# Altium footprint library FT-M6678DSK_28nm_0920.PcbLib: 78 footprints (part 6 of 6)
Each footprint in its own frame and in the unit in brackets; x right, y up, seen from the top. Pads: shape width x height; smd on the part's side, far side on the other; paste and mask are expansions set on the pad; w line width, h text height; cw(c..) or ccw(c..) is an arc to the next point about the centre after c.
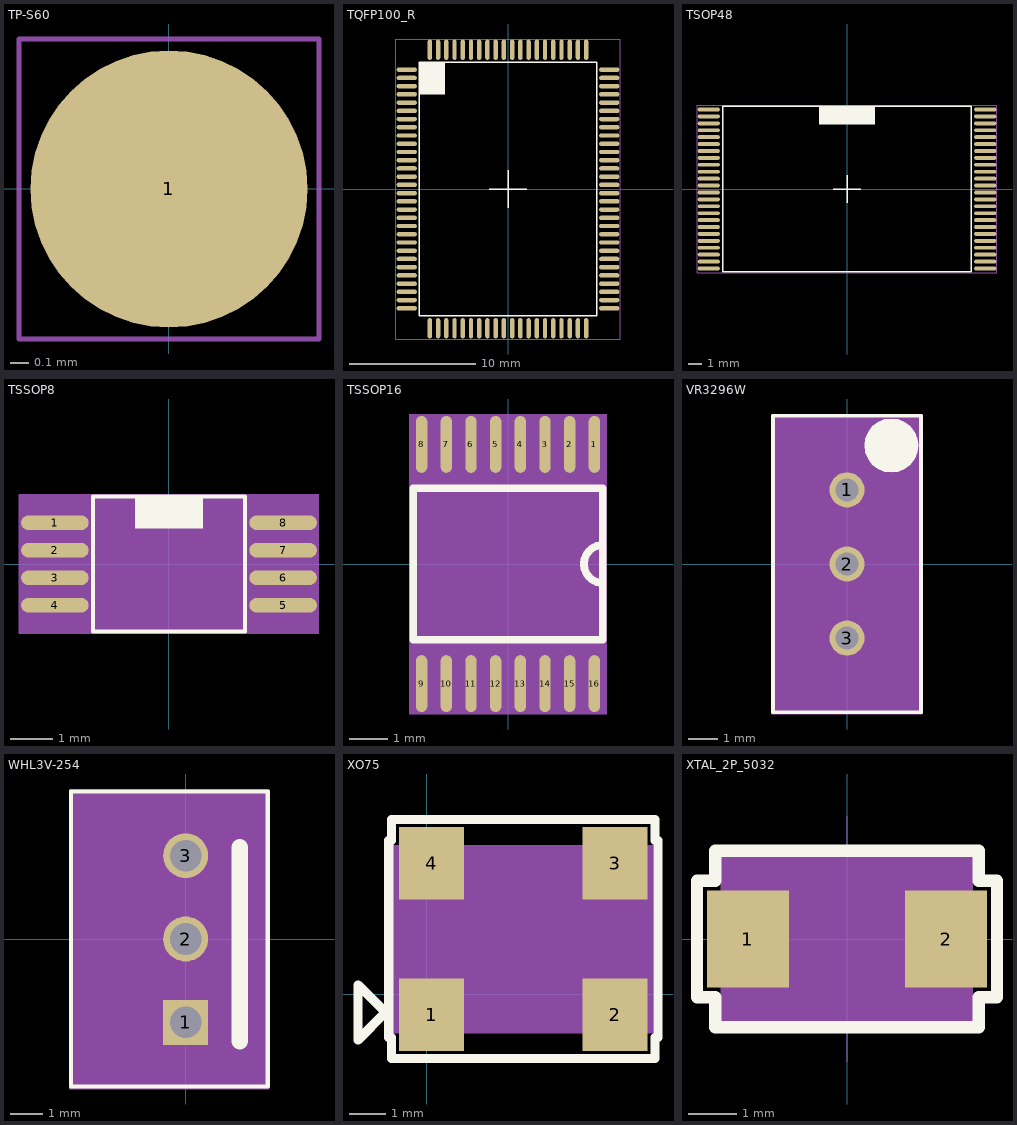
[diagram p5: the footprints below, top view; thin cyan lines are the x and y axes]

## TP-S60 [mil] "TP-S60"
pads (1):
  round 60 smd: 1(0,0)
Mechanical 11:
  text "1" at -11.2,0 h28
Mechanical 15:
  lines w1: -32.5,-32.5 -32.5,32.5 32.5,32.5 32.5,-32.5 -32.5,-32.5

## TQFP100_R [mm] "TQFP100_R"
pads (100):
  oval 1.6x0.35 smd: 1(-8,9.425) 2(-8,8.775) 3(-8,8.125) 4(-8,7.475) 5(-8,6.825) 6(-8,6.175) 7(-8,5.525) 8(-8,4.875) 9(-8,4.225) 10(-8,3.575) 11(-8,2.925) 12(-8,2.275) 13(-8,1.625) 14(-8,0.975) 15(-8,0.325) 16(-8,-0.325) 17(-8,-0.975) 18(-8,-1.625) 19(-8,-2.275) 20(-8,-2.925) 21(-8,-3.575) 22(-8,-4.225) 23(-8,-4.875) 24(-8,-5.525) 25(-8,-6.175) 26(-8,-6.825) 27(-8,-7.475) 28(-8,-8.125) 29(-8,-8.775) 30(-8,-9.425) 51(8,-9.425) 52(8,-8.775) 53(8,-8.125) 54(8,-7.475) 55(8,-6.825) 56(8,-6.175) 57(8,-5.525) 58(8,-4.875) 59(8,-4.225) 60(8,-3.575) 61(8,-2.925) 62(8,-2.275) 63(8,-1.625) 64(8,-0.975) 65(8,-0.325) 66(8,0.325) 67(8,0.975) 68(8,1.625) 69(8,2.275) 70(8,2.925) 71(8,3.575) 72(8,4.225) 73(8,4.875) 74(8,5.525) 75(8,6.175) 76(8,6.825) 77(8,7.475) 78(8,8.125) 79(8,8.775) 80(8,9.425)
  oval 0.35x1.6 smd: 31(-6.175,-11) 32(-5.525,-11) 33(-4.875,-11) 34(-4.225,-11) 35(-3.575,-11) 36(-2.925,-11) 37(-2.275,-11) 38(-1.625,-11) 39(-0.975,-11) 40(-0.325,-11) 41(0.325,-11) 42(0.975,-11) 43(1.625,-11) 44(2.275,-11) 45(2.925,-11) 46(3.575,-11) 47(4.225,-11) 48(4.875,-11) 49(5.525,-11) 50(6.175,-11) 81(6.175,11) 82(5.525,11) 83(4.875,11) 84(4.225,11) 85(3.575,11) 86(2.925,11) 87(2.275,11) 88(1.625,11) 89(0.975,11) 90(0.325,11) 91(-0.325,11) 92(-0.975,11) 93(-1.625,11) 94(-2.275,11) 95(-2.925,11) 96(-3.575,11) 97(-4.225,11) 98(-4.875,11) 99(-5.525,11) 100(-6.175,11)
Top Overlay:
  pour cut-out: -7,10 -7,7.5 -5,7.5 -5,10
  lines w0.1: -1.5,0 1.5,0 ; 0,-1.5 0,1.5 ; -7,-10 7,-10 7,10 -7,10 -7,-10
Mechanical 11:
  text "100" at -6.535,11 h0.3
  text "98" at -5.115,11 h0.3
  text "68" at 7.76,1.625 h0.3
  text "94" at -2.515,11 h0.3
  text "69" at 7.76,2.275 h0.3
  text "72" at 7.76,4.225 h0.3
  text "73" at 7.76,4.875 h0.3
  text "74" at 7.76,5.525 h0.3
  text "85" at 3.335,11 h0.3
  text "37" at -2.515,-11 h0.3
  text "75" at 7.76,6.175 h0.3
  text "86" at 2.685,11 h0.3
  text "87" at 2.035,11 h0.3
  text "7" at -8.12,5.525 h0.3
  text "13" at -8.24,1.625 h0.3
  text "28" at -8.24,-8.125 h0.3
  text "18" at -8.24,-1.625 h0.3
  text "22" at -8.24,-4.225 h0.3
  text "29" at -8.24,-8.775 h0.3
  text "9" at -8.12,4.225 h0.3
  text "8" at -8.12,4.875 h0.3
  text "3" at -8.12,8.125 h0.3
  text "25" at -8.24,-6.175 h0.3
  text "2" at -8.12,8.775 h0.3
  text "24" at -8.24,-5.525 h0.3
  text "23" at -8.24,-4.875 h0.3
  text "19" at -8.24,-2.275 h0.3
  text "12" at -8.24,2.275 h0.3
  text "6" at -8.12,6.175 h0.3
  text "30" at -8.24,-9.425 h0.3
  text "1" at -8.12,9.425 h0.3
  text "80" at 7.76,9.425 h0.3
  text "51" at 7.76,-9.425 h0.3
  text "31" at -6.415,-11 h0.3
  text "40" at -0.565,-11 h0.3
  text "55" at 7.76,-6.825 h0.3
  text "21" at -8.24,-3.575 h0.3
  text "26" at -8.24,-6.825 h0.3
  text "60" at 7.76,-3.575 h0.3
  text "17" at -8.24,-0.975 h0.3
  text "67" at 7.76,0.975 h0.3
  text "64" at 7.76,-0.975 h0.3
  text "5" at -8.12,6.825 h0.3
  text "10" at -8.24,3.575 h0.3
  text "76" at 7.76,6.825 h0.3
  text "71" at 7.76,3.575 h0.3
  text "92" at -1.215,11 h0.3
  text "90" at 0.085,11 h0.3
  text "96" at -3.815,11 h0.3
  text "95" at -3.165,11 h0.3
  text "89" at 0.735,11 h0.3
  text "27" at -8.24,-7.475 h0.3
  text "41" at 0.085,-11 h0.3
  text "54" at 7.76,-7.475 h0.3
  text "20" at -8.24,-2.925 h0.3
  text "61" at 7.76,-2.925 h0.3
  text "11" at -8.24,2.925 h0.3
  text "15" at -8.24,0.325 h0.3
  text "65" at 7.76,-0.325 h0.3
  text "70" at 7.76,2.925 h0.3
  text "4" at -8.12,7.475 h0.3
  text "77" at 7.76,7.475 h0.3
  text "97" at -4.465,11 h0.3
  text "91" at -0.565,11 h0.3
  text "88" at 1.385,11 h0.3
  text "84" at 3.985,11 h0.3
  text "57" at 7.76,-5.525 h0.3
  text "49" at 5.285,-11 h0.3
  text "58" at 7.76,-4.875 h0.3
  text "50" at 5.935,-11 h0.3
  text "59" at 7.76,-4.225 h0.3
  text "43" at 1.385,-11 h0.3
  text "42" at 0.735,-11 h0.3
  text "83" at 4.635,11 h0.3
  text "62" at 7.76,-2.275 h0.3
  text "39" at -1.215,-11 h0.3
  text "63" at 7.76,-1.625 h0.3
  text "93" at -1.865,11 h0.3
  text "99" at -5.765,11 h0.3
  text "82" at 5.285,11 h0.3
  text "52" at 7.76,-8.775 h0.3
  text "81" at 5.935,11 h0.3
  text "44" at 2.035,-11 h0.3
  text "45" at 2.685,-11 h0.3
  text "46" at 3.335,-11 h0.3
  text "47" at 3.985,-11 h0.3
  text "53" at 7.76,-8.125 h0.3
  text "48" at 4.635,-11 h0.3
  text "56" at 7.76,-6.175 h0.3
  text "78" at 7.76,8.125 h0.3
  text "36" at -3.165,-11 h0.3
  text "35" at -3.815,-11 h0.3
  text "79" at 7.76,8.775 h0.3
  text "34" at -4.465,-11 h0.3
  text "33" at -5.115,-11 h0.3
  text "32" at -5.765,-11 h0.3
  text "66" at 7.76,0.325 h0.3
  text "38" at -1.865,-11 h0.3
  text "16" at -8.24,-0.325 h0.3
  text "14" at -8.24,0.975 h0.3
Mechanical 15:
  lines w0.025: -8.85,-11.85 8.85,-11.85 8.85,11.85 -8.85,11.85 -8.85,-11.85

## TSOP48 [mm] "TSOP48"
pads (48):
  oval 1.6x0.28 smd: 1(-10,5.75) 2(-10,5.25) 3(-10,4.75) 4(-10,4.25) 5(-10,3.75) 6(-10,3.25) 7(-10,2.75) 8(-10,2.25) 9(-10,1.75) 10(-10,1.25) 11(-10,0.75) 12(-10,0.25) 13(-10,-0.25) 14(-10,-0.75) 15(-10,-1.25) 16(-10,-1.75) 17(-10,-2.25) 18(-10,-2.75) 19(-10,-3.25) 20(-10,-3.75) 21(-10,-4.25) 22(-10,-4.75) 23(-10,-5.25) 24(-10,-5.75) 25(10,-5.75) 26(10,-5.25) 27(10,-4.75) 28(10,-4.25) 29(10,-3.75) 30(10,-3.25) 31(10,-2.75) 32(10,-2.25) 33(10,-1.75) 34(10,-1.25) 35(10,-0.75) 36(10,-0.25) 37(10,0.25) 38(10,0.75) 39(10,1.25) 40(10,1.75) 41(10,2.25) 42(10,2.75) 43(10,3.25) 44(10,3.75) 45(10,4.25) 46(10,4.75) 47(10,5.25) 48(10,5.75)
Top Overlay:
  pour cut-out: -2,6 -2,4.7 2,4.7 2,6
  lines w0.1: -1,0 1,0 ; 0,-1 0,1 ; -9,-6 -9,6 9,6 9,-6 -9,-6
Mechanical 11:
  text "6" at -10.12,3.25 h0.3
  text "19" at -10.24,-3.25 h0.3
  text "31" at 9.76,-2.75 h0.3
  text "7" at -10.12,2.75 h0.3
  text "47" at 9.76,5.25 h0.3
  text "48" at 9.76,5.75 h0.3
  text "1" at -10.12,5.75 h0.3
  text "2" at -10.12,5.25 h0.3
  text "3" at -10.12,4.75 h0.3
  text "24" at -10.24,-5.75 h0.3
  text "25" at 9.76,-5.75 h0.3
  text "26" at 9.76,-5.25 h0.3
  text "27" at 9.76,-4.75 h0.3
  text "28" at 9.76,-4.25 h0.3
  text "29" at 9.76,-3.75 h0.3
  text "30" at 9.76,-3.25 h0.3
  text "45" at 9.76,4.25 h0.3
  text "5" at -10.12,3.75 h0.3
  text "20" at -10.24,-3.75 h0.3
  text "21" at -10.24,-4.25 h0.3
  text "22" at -10.24,-4.75 h0.3
  text "23" at -10.24,-5.25 h0.3
  text "36" at 9.76,-0.25 h0.3
  text "12" at -10.24,0.25 h0.3
  text "42" at 9.76,2.75 h0.3
  text "43" at 9.76,3.25 h0.3
  text "13" at -10.24,-0.25 h0.3
  text "37" at 9.76,0.25 h0.3
  text "10" at -10.24,1.25 h0.3
  text "16" at -10.24,-1.75 h0.3
  text "33" at 9.76,-1.75 h0.3
  text "35" at 9.76,-0.75 h0.3
  text "38" at 9.76,0.75 h0.3
  text "8" at -10.12,2.25 h0.3
  text "39" at 9.76,1.25 h0.3
  text "9" at -10.12,1.75 h0.3
  text "14" at -10.24,-0.75 h0.3
  text "15" at -10.24,-1.25 h0.3
  text "41" at 9.76,2.25 h0.3
  text "34" at 9.76,-1.25 h0.3
  text "32" at 9.76,-2.25 h0.3
  text "40" at 9.76,1.75 h0.3
  text "17" at -10.24,-2.25 h0.3
  text "11" at -10.24,0.75 h0.3
  text "18" at -10.24,-2.75 h0.3
  text "44" at 9.76,3.75 h0.3
  text "4" at -10.12,4.25 h0.3
  text "46" at 9.76,4.75 h0.3
Mechanical 15:
  lines w0.025: -10.85,-6.05 -10.85,6.05 10.85,6.05 10.85,-6.05 -10.85,-6.05

## TSSOP8 [mm] "TSSOP8"
pads (8):
  oval 1.6x0.35 smd: 1(-2.7,0.975) 2(-2.7,0.325) 3(-2.7,-0.325) 4(-2.7,-0.975) 5(2.7,-0.975) 6(2.7,-0.325) 7(2.7,0.325) 8(2.7,0.975)
Top Overlay:
  pour cut-out: -0.8,1.55 -0.8,0.85 0.8,0.85 0.8,1.55
  lines w0.1: -1.8,-1.6 -1.8,1.6 1.8,1.6 1.8,-1.6 -1.8,-1.6
Mechanical 11:
  text "6" at 2.7,-0.445 h0.3
  text "3" at -2.7,-0.445 h0.3
  text "2" at -2.7,0.205 h0.3
  text "1" at -2.7,0.855 h0.3
  text "4" at -2.7,-1.095 h0.3
  text "8" at 2.7,0.855 h0.3
  text "7" at 2.7,0.205 h0.3
  text "5" at 2.7,-1.095 h0.3
Mechanical 15:
  region: -3.55,-1.65 3.55,-1.65 3.55,1.65 -3.55,1.65
3D body: height 3.81, standoff 0, extent -3.55,-1.65 3.55,1.65

## TSSOP16 [mm] "TSSOP16"
pads (16):
  oval 0.3x1.5 smd: 1(2.275,3.15) 2(1.625,3.15) 3(0.975,3.15) 4(0.325,3.15) 5(-0.325,3.15) 6(-0.975,3.15) 7(-1.625,3.15) 8(-2.275,3.15) 9(-2.275,-3.15) 10(-1.625,-3.15) 11(-0.975,-3.15) 12(-0.325,-3.15) 13(0.325,-3.15) 14(0.975,-3.15) 15(1.625,-3.15) 16(2.275,-3.15)
Top Overlay:
  lines w0.2: 2.5,-0.5 cw(c2.5,0) 2.5,0.5 ; -2.5,-2 -2.5,2 2.5,2 2.5,-2 -2.5,-2
Mechanical 11:
  text "10" at -1.385,-3.15 h0.3
  text "7" at -1.505,3.15 h0.3
  text "5" at -0.205,3.15 h0.3
  text "15" at 1.865,-3.15 h0.3
  text "16" at 2.515,-3.15 h0.3
  text "6" at -0.855,3.15 h0.3
  text "12" at -0.085,-3.15 h0.3
  text "2" at 1.745,3.15 h0.3
  text "4" at 0.445,3.15 h0.3
  text "11" at -0.735,-3.15 h0.3
  text "9" at -2.155,-3.15 h0.3
  text "3" at 1.095,3.15 h0.3
  text "13" at 0.565,-3.15 h0.3
  text "8" at -2.155,3.15 h0.3
  text "14" at 1.215,-3.15 h0.3
  text "1" at 2.395,3.15 h0.3
Mechanical 15:
  region: -2.6,-3.95 2.6,-3.95 2.6,3.95 -2.6,3.95
3D body: height 3.81, standoff 0, extent -2.6,-3.95 2.6,3.95

## VR3296W [mil] "VR3296W"
pads (3):
  round 47.24 hole 31.5: 1(0,100) 2(0,0) 3(0,-100)
Top Overlay:
  pour cut-out: 60,196.37 50.59,195.13 41.81,191.5 34.28,185.72 28.5,178.19 24.87,169.41 23.63,160 24.87,150.59 28.5,141.81 34.28,134.28 41.81,128.5 50.59,124.87 60,123.63 69.41,124.87 78.19,128.5 85.72,134.28 91.5,141.81 95.13,150.59 96.37,160 95.13,169.41 91.5,178.19 85.72,185.72 78.19,191.5 69.41,195.13
  lines w5: -100,-200 -100,200 100,200 100,-200 -100,-200
Mechanical 11:
  text "3" at 0,-104.72 h11.81
  text "1" at 0,95.28 h11.81
  text "2" at 0,-4.72 h11.81
Mechanical 15:
  region: -102.5,-202.5 102.5,-202.5 102.5,202.5 -102.5,202.5
3D body: height 150, standoff 0, extent -102.5,-202.5 102.5,202.5

## WHL3V-254 [mil] "WHL3V-254"
pads (3):
  rect 54x54 / inner rect 50x50 / far side rect 54x54 hole 38: 1(0,-100)
  round 54 / inner round 50 / far side round 54 hole 38: 2(0,0) 3(0,100)
Top Overlay:
  lines w5: -137.8,-177.17 -137.8,177.17 98.43,177.17 98.43,-177.17 -137.8,-177.17
  lines w20: 65,-122.5 65,110
Mechanical 11:
  text "3" at 0,88.8 h28
  text "2" at 0,-11.2 h28
  text "1" at 0,-111.2 h28
Mechanical 15:
  region: -140,-180 100,-180 100,180 -140,180
3D body: height 150, standoff 0, extent -140,-180 100,180

## XO75 [mil]
pads (4):
  rect 71x79 smd: 1(5,-22.68) 2(205,-22.68) 3(205,142.68) 4(5,142.68)
Top Overlay:
  lines w10: -75.18,-50 -75.18,10 -45.18,-20 -75.18,-50 ; -41.73,-47.35 -38.5,-47.35 -38.5,-70.18 248.5,-70.18 248.5,-47.35 251.73,-47.35 251.73,167.36 248.5,167.36 248.5,190.19 -38.5,190.19 -38.5,167.36 -41.73,167.36 -41.73,-47.35
Mechanical 11:
  text "4" at 5,147.41 h11.81
  text "2" at 205,-17.96 h11.81
  text "3" at 205,147.41 h11.81
  text "1" at 5,-17.96 h11.81
Mechanical 12:
  lines w1: -36.73,-42.35 -36.73,162.36 246.73,162.36 246.73,-42.35 -36.73,-42.35
Mechanical 15:
  region: -36.73,-42.35 246.73,-42.35 246.73,162.37 -36.73,162.37
3D body: height 150, standoff 0, extent -36.73,-42.35 246.73,162.37

## XTAL_2P_5032 [mil] "XTAL_2P_5032"
pads (2):
  rect 67x79 smd: 1(-80.65,0) 2(80.65,0)
Top Overlay:
  lines w10: -122.15,-47.5 -107.36,-47.5 -107.36,-71.93 107.36,-71.93 107.36,-47.5 122.15,-47.5 122.15,47.5 107.36,47.5 107.36,71.93 -107.36,71.93 -107.36,47.5 -122.15,47.5 -122.15,-47.5
Mechanical 11:
  text "2" at 85.37,0 h11.81
  text "1" at -75.93,0 h11.81
Mechanical 12:
  lines w1: -102.36,-66.93 102.36,-66.93 102.36,66.93 -102.36,66.93 -102.36,-66.93
Mechanical 15:
  region: -102.36,-66.93 102.35,-66.93 102.35,66.93 -102.36,66.93
Mechanical 16:
  lines w1: -100,0 100,0 -100,0 ; 0,-100 0,100 0,-100
3D body: height 150, standoff 0, extent -102.36,-66.93 102.35,66.93